# Altium footprint library TEP_243-Altium_Library.PcbLib: 103 footprints (part 7 of 7)
Each footprint in its own frame and in the unit in brackets; x right, y up, seen from the top. Pads: shape width x height; smd on the part's side, far side on the other; paste and mask are expansions set on the pad; w line width, h text height; cw(c..) or ccw(c..) is an arc to the next point about the centre after c.
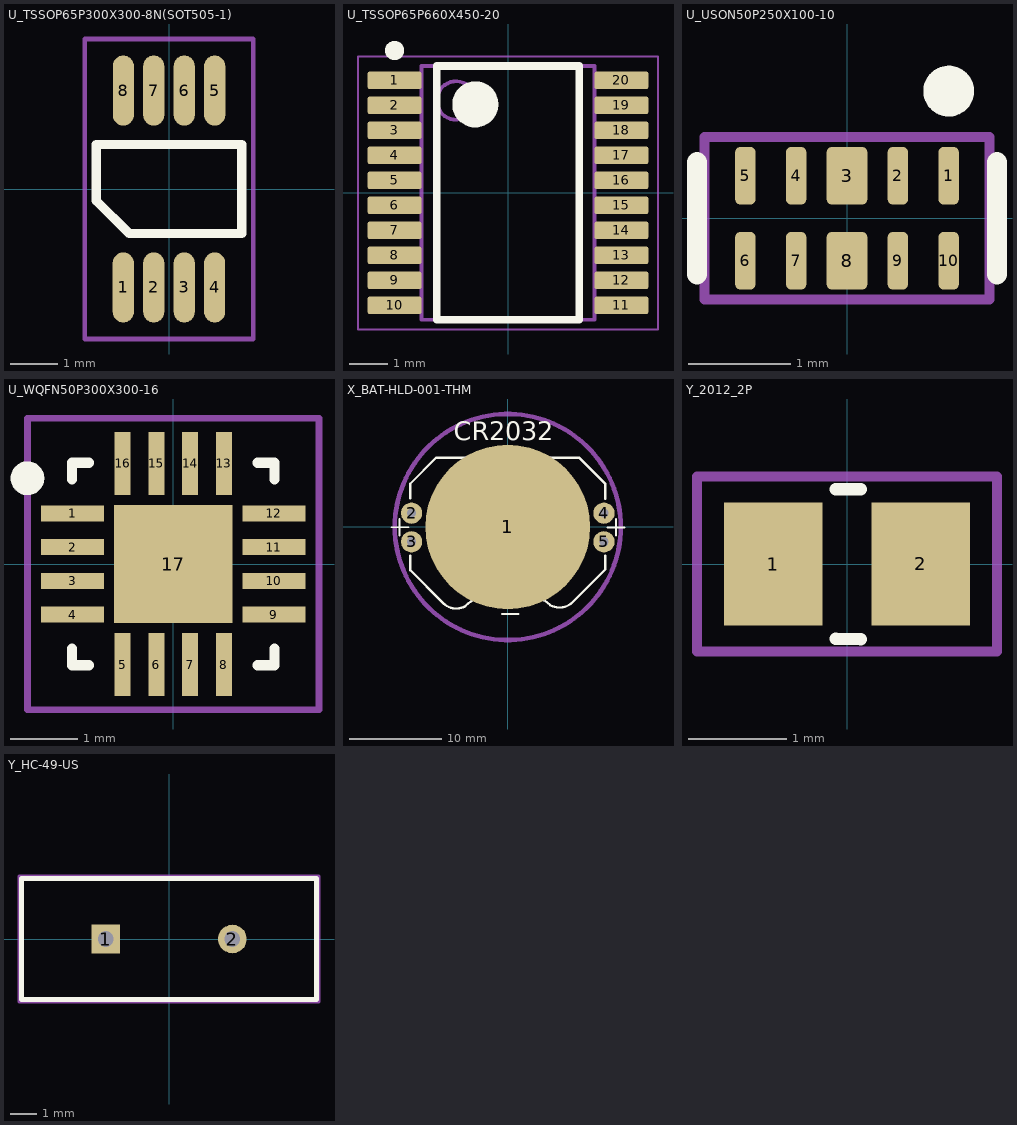
[diagram p6: the footprints below, top view; thin cyan lines are the x and y axes]

## U_TSSOP65P300X300-8N(SOT505-1) [mm]
height 1.1
pads (8):
  oval 0.45x1.5 smd mask+0.05: 1(-0.975,-2.1) 2(-0.325,-2.1) 3(0.325,-2.1) 4(0.975,-2.1) 5(0.975,2.1) 6(0.325,2.1) 7(-0.325,2.1) 8(-0.975,2.1)
Top Overlay:
  lines w0.2: -1.55,-0.25 -1.55,0.95 1.55,0.95 1.55,-0.95 -0.85,-0.95 -1.55,-0.25
Top Courtyard:
  lines w0.1: -1.8,-3.2 -1.8,3.2 1.8,3.2 1.8,-3.2 -1.8,-3.2
Top Designator:
  text ".Designator" at -1.727,-0.339 h1.5
3D body "DGK0008AakaMUA08A.stp": height 0.94, standoff -0.02, extent -1.499,-2.451 1.499,2.451

## U_TSSOP65P660X450-20 [mm] "SOP, 20-Leads, Body 6.6x4.5mm, Pitch 0.65mm, IPC Medium Density"
height 1.2
pads (20):
  rrect22% 1.4x0.45 smd: 1(-2.95,2.925) 2(-2.95,2.275) 3(-2.95,1.625) 4(-2.95,0.975) 5(-2.95,0.325) 6(-2.95,-0.325) 7(-2.95,-0.975) 8(-2.95,-1.625) 9(-2.95,-2.275) 10(-2.95,-2.925) 11(2.95,-2.925) 12(2.95,-2.275) 13(2.95,-1.625) 14(2.95,-0.975) 15(2.95,-0.325) 16(2.95,0.325) 17(2.95,0.975) 18(2.95,1.625) 19(2.95,2.275) 20(2.95,2.925)
Top Overlay:
  circle w0.25: c-2.95,3.7 r0.125
  circle w0.6: c-0.85,2.3 r0.3
  lines w0.2: -1.85,-3.3 -1.85,3.3 1.85,3.3 1.85,-3.3 -1.85,-3.3
Top Courtyard:
  lines w0.05: -3.9,-3.55 -3.9,3.55 3.9,3.55 3.9,-3.55 -3.9,-3.55
Top Designator:
  text ".Designator" at -1.524,-0.508 h1.02
Top Component Outline:
  circle w0.1: c-1.35,2.4 r0.5
  lines w0.1: -2.25,-3.3 2.25,-3.3 2.25,3.3 -2.25,3.3 -2.25,-3.3
3D body "PW0020AakaMTC20.stp": height 1, standoff 0, extent -3.21,-3.25 3.21,3.25

## U_USON50P250X100-10 [mm]
height 2.65
pads (10):
  rrect50% 0.2x0.565 smd paste+0 mask+0: 1(1,0.417) 2(0.5,0.417) 4(-0.5,0.417) 5(-1,0.417) 6(-1,-0.417) 7(-0.5,-0.417) 9(0.5,-0.417) 10(1,-0.417)
  rrect25% 0.4x0.565 smd paste-0.025 mask+0: 3(0,0.417) 8(0,-0.417)
Top Overlay:
  circle w0.25: c1,1.25 r0.125
  lines w0.2: -1.475,-0.55 -1.475,0.55 ; 1.475,-0.55 1.475,0.55
Top Courtyard:
  lines w0.1: -1.4,-0.8 -1.4,0.8 1.4,0.8 1.4,-0.8 -1.4,-0.8
Top Designator:
  text ".Designator" at -1.109,-0.226 h1
3D body "Diode_Texas_Instruments_ESD204DQAR_eec.STEP": height 0.25, standoff 0, extent -1.4,-0.8 1.4,0.8

## U_WQFN50P300X300-16 [mm]
pads (17):
  rect 0.931x0.239 smd paste+0 mask+0: 1(-1.491,0.75) 2(-1.491,0.25) 3(-1.491,-0.25) 4(-1.491,-0.75) 9(1.491,-0.75) 10(1.491,-0.25) 11(1.491,0.25) 12(1.491,0.75)
  rect 0.239x0.931 smd paste+0 mask+0: 5(-0.75,-1.491) 6(-0.25,-1.491) 7(0.25,-1.491) 8(0.75,-1.491) 13(0.75,1.491) 14(0.25,1.491) 15(-0.25,1.491) 16(-0.75,1.491)
  rect 1.75x1.75 smd paste-0.862 mask+0: 17(0,0)
Top Overlay:
  circle w0.25: c-2.159,1.27 r0.125
  lines w0.15: -1.5,-1.25 -1.5,-1.5 -1.25,-1.5 ; -1.5,1.25 -1.5,1.5 -1.25,1.5 ; 1.25,-1.5 1.5,-1.5 1.5,-1.25 ; 1.25,1.5 1.5,1.5 1.5,1.25
Top Paste:
  region: -0.553,0.553 -0.553,-0.553 0.553,-0.553 0.553,0.553
Top Courtyard:
  lines w0.1: -2.159,-2.159 -2.159,2.159 2.159,2.159 2.159,-2.159 -2.159,-2.159
Top Designator:
  text ".Designator" at -2.235,-0.466 h1.5
3D body "RTE0016C.stp": height 0.8, standoff 0, extent -1.5,-1.5 1.5,1.5

## X_BAT-HLD-001-THM [mm] "Holder Coin Cell CR2032 20mm dia. TH"
height 4.2
pads (5):
  round 17.8 smd paste-4.45: 1(0,0)
  round 2.3 hole 1: 2(-10.4,1.5) 3(-10.4,-1.6) 4(10.4,1.5) 5(10.4,-1.6)
Top Overlay:
  lines w0.2: -12.6,-0.025 -10.75,-0.025 ; -11.7,-0.925 -11.7,0.875 ; -0.625,-9.4 1.175,-9.4 ; 10.8,-0.05 12.65,-0.05 ; 11.7,-0.95 11.7,0.85
  lines w0.254: -10.55,-4.65 -10.55,-3.125 ; -10.55,3.075 -10.55,4.675 -7.725,7.5 7.7,7.5 10.55,4.65 10.55,3.05 ; -10.525,-4.675 -7.1,-8.1 ccw(c-5.559,-6.788) -4.601,-8.57 ; -4.648,-8.601 cw(c0.051,-13.458) 4.59,-8.451 ; 4.626,-8.47 ccw(c5.584,-6.688) 7.125,-8 10.55,-4.575 10.55,-3.1
  text "CR2032" at -5.825,9.4 h2
Top Courtyard:
  circle w0.5: c0,0 r12.216
Top Designator:
  text ".Designator" at -3.378,-0.339 h1.5
3D body "BAT-HLD-001-THM.STEP": height 4.32, standoff -3.3, extent -10.441,-7.947 10.641,7.547

## Y_2012_2P [mm]
height 0.55
pads (2):
  rect 1x1.25 smd: 1(-0.75,0) 2(0.75,0)
Top Overlay:
  lines w0.127: -0.115,-0.762 0.139,-0.762 ; -0.115,0.762 0.139,0.762
Top Courtyard:
  lines w0.1: -1.524,-0.889 1.524,-0.889 1.524,0.889 -1.524,0.889 -1.524,-0.889
Top Designator:
  text ".Designator" at 0,0.188 h1
3D body: height 0.75, standoff 0, extent -1.08,-0.762 1.13,0.762

## Y_HC-49-US [mm] "Xtal"
height 7.6
pads (2):
  rect 1.1x1.1 hole 0.6 paste-2539.97 mask+0: 1(-2.44,0)
  round 1.1 hole 0.6 paste-2539.97 mask+0: 2(2.44,0)
Top Overlay:
  lines w0.2: -5.675,-2.325 5.675,-2.325 5.675,2.325 -5.675,2.325 -5.675,-2.325
Top Courtyard:
  lines w0.1: -5.775,-2.425 5.775,-2.425 5.775,2.425 -5.775,2.425 -5.775,-2.425
Top Designator:
  text ".Designator" at -2.032,0.696 h1
Top 3D Body:
  lines w0.2: -5.675,-2.325 5.675,-2.325 5.675,2.325 -5.675,2.325 -5.675,-2.325
3D body "Crys_ECS_ECS-80-20-4X_eec.STEP": height 0.25, standoff 0, extent -5.775,-2.425 5.775,2.425